# EAGLE library part DF17_DS20 (library paparazzi)
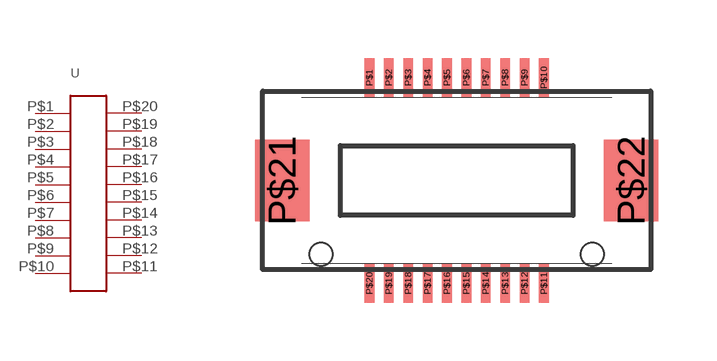
[diagram p37: symbol with the pads of DF17_20DS; footprint DF17_20DS]

Designator prefix -

## DF17_DS20  [DF17_20DS]
P$1  P$1
P$2  P$2
P$3  P$3
P$4  P$4
P$5  P$5
P$6  P$6
P$7  P$7
P$8  P$8
P$9  P$9
P$10  P$10
P$11  P$11
P$12  P$12
P$13  P$13
P$14  P$14
P$15  P$15
P$16  P$16
P$17  P$17
P$18  P$18
P$19  P$19
P$20  P$20

## Footprint DF17_20DS (pad centres in mm)
smd 0.25 x 1: P$1 -2.25,2.65; P$2 -1.75,2.65; P$3 -1.25,2.65; P$4 -0.75,2.65; P$5 -0.25,2.65; P$6 0.25,2.65; P$7 0.75,2.65; P$8 1.25,2.65; P$9 1.75,2.65; P$10 2.25,2.65; P$11 2.25,-2.65; P$12 1.75,-2.65; P$13 1.25,-2.65; P$14 0.75,-2.65; P$15 0.25,-2.65; P$16 -0.25,-2.65; P$17 -0.75,-2.65; P$18 -1.25,-2.65; P$19 -1.75,-2.65; P$20 -2.25,-2.65
smd 1.4 x 2.1: P$21 -4.5,0; P$22 4.5,0
hole 0.6 at 3.5,-1.9
hole 0.6 at -3.5,-1.9